# Altium integrated library TI Power Management DC-DC Controller (External Switch).IntLib: 349 symbols (part 26 of 28)
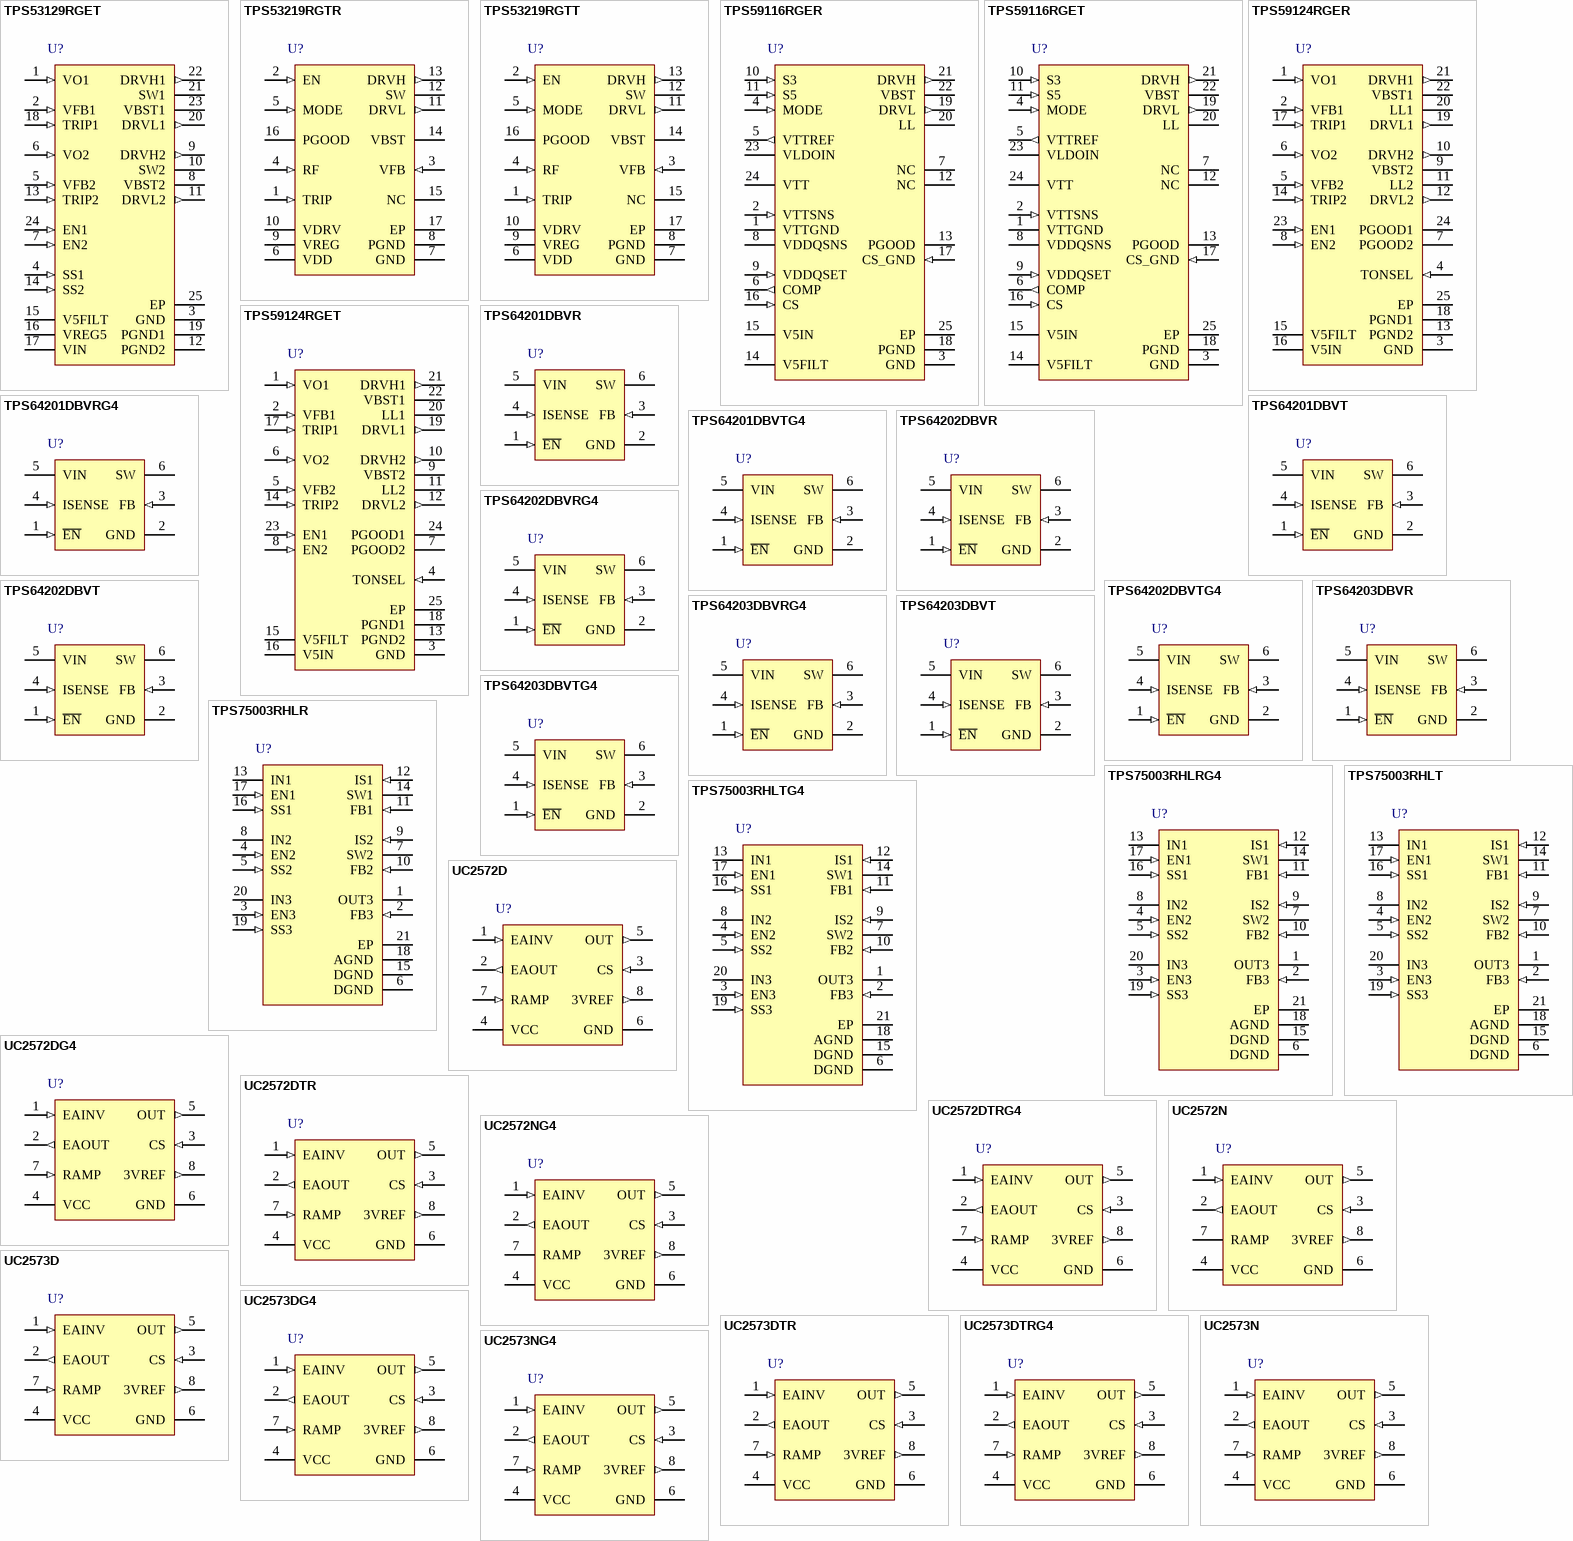
[diagram p39: symbols TPS53129RGET to UC2573NG4]

## TPS59124RGET
designator U?
Dual Synchronous Step-Down Controller for Low Voltage Power Rails in Embedded Computing, 3 to 28 V, -40 to 85 degC, 24-pin VQFN (RGE), Green (RoHS & no Sb/Br); Manufacturer: Texas Instruments; PartNumber: TPS59124RGET; Regulated Outputs(#): 2; SubFamily: Multiple-Output Switching Controller; Switching Frequency(Max)(kHz): 420; Topology: D-CAP Mode; Vin(Max)(V): 28; Vin(Min)(V): 3; Vout(Max)(V): 5.5; Vout(Min)(V): 0.76; DatasheetVersion: SLUSA58; PackageVersion: revG, Jul-2011; PackageReference: RGE24-2450X2450TP; PackageDescription: 24-Pin Plastic Quad Flatpack No-Lead, 4 x 4 mm Body, 0.5 mm Pitch; Supplier 1: Digi-Key; Supplier Part Number 1: 296-27718-2-ND; Supplier 2: Digi-Key; Supplier Part Number 2: 296-27718-1-ND; Supplier 3: Digi-Key; Supplier Part Number 3: 296-27718-6-ND; Supplier 4: Mouser; Supplier Part Number 4: 595-TPS59124RGET; Eco-Plan: Green (RoHS & no Sb/Br); Mounting Technology: Surface Mount; Code_JEDEC: MO-220; ComponentLink1Description: Datasheet; ComponentLink1URL: http://www.ti.com/general/docs/lit/getliterature.tsp?genericPartNumber=TPS59124&fileType=pdf; ComponentLink2Description: Package Specification; ComponentLink2URL: http://www.ti.com/litv/pdf/mpqf124f
footprint RGE24-2450X2450TP (QFN, 24-Leads, Body 4x4mm, Pitch 0.5mm, Thermal Pad 2.45x2.45mm, TI Recommended)
pins: 1 VO1 (in) "Output connections to SMPS. This terminal serve two functions: On-time adjustment and output discharge.", 2 VFB1 (in) "SMPS voltage feedback input. Connect with feedback resistor divider.", 3 GND (power) "Signal ground pin", 4 TONSEL (in) "On-time selection pin.", 5 VFB2 (in) "SMPS voltage feedback input. Connect with feedback resistor divider.", 6 VO2 (in) "Output connections to SMPS. This terminal serve two functions: On-time adjustment and output  discharge.", 7 PGOOD2 (oc) "Power Good window comparator open drain output for channel 2. Pull up with a resistor to 5 V, or appropriate signal voltage. Current capability is 5 mA. PGOOD goes high 0.5 ms after VFB comes within specified limits. Power (See Datasheet)", 8 EN2 (in) "Channel 2 enable pin. Connect to 5 V or 3.3 V to turn on SMPS", 9 VBST2 (power) "Supply input for synchronous high-side MOSFET driver (Boost Terminal). Connect capacitor from this pin to respective LL terminals. An internal PN diode is connected between V5IN to each of these pins. User can add external (See Datasheet)", 10 DRVH2 (out) "Synchronous high-side MOSFET driver output. LL node referenced floating drivers. The gate drive voltage is defined by the voltage across VBST to LL node flying capacitor.", 11 LL2 (power) "Switch node connections for high-side drivers return. Also serve as input to current comparators and input voltage monitor for on-time control circuitry.", 12 DRVL2 (out) "Synchronous low-side MOSFET driver output. PGND referenced drivers. The gate drive voltage is defined by V5IN voltage.", 13 PGND2 (power) "Ground returns for DRVL1 and DRVL2. Also serve as input of current comparators. Connect PGND1, PGND2, and GND strongly together near the IC. Output discharge current flows through this pin, also.", 14 TRIP2 (in) "Over-current trip point set input. Connect resistor from this pin to GND to set threshold for synchronous low-side RDS(on) sense. Voltage across this pin and GND is compared to voltage across PGND and LL at over-current (See Datasheet)", 15 V5FILT (power) "5-V power supply input for the entire control circuit except the MOSFET drivers. Connect RC low-pass filter from V5IN to V5FILT.", 16 V5IN (power) "5-V power supply input for FET gate drivers. Internally connected to VBSTx by PN diodes.", 17 TRIP1 (in) "Over-current trip point set input. Connect resistor from this pin to GND to set threshold for synchronous low-side RDS(on) sense. Voltage across this pin and GND is compared to voltage across PGND and LL at over-current (See Datasheet)", 18 PGND1 (power) "Ground returns for DRVL1 and DRVL2. Also serve as input of current comparators. Connect PGND1, PGND2, and GND strongly together near the IC. Output discharge current flows through this pin, also.", 19 DRVL1 (out) "Synchronous low-side MOSFET driver output. PGND referenced drivers. The gate drive voltage is defined by V5IN voltage.", 20 LL1 (power) "Switch node connections for high-side drivers return. Also serve as input to current comparators and input voltage monitor for on-time control circuitry.", 21 DRVH1 (out) "Synchronous high-side MOSFET driver output. LL node referenced floating drivers. The gate drive voltage is defined by the voltage across VBST to LL node flying capacitor.", 22 VBST1 (power) "Supply input for synchronous high-side MOSFET driver (Boost Terminal). Connect capacitor from this pin to respective LL terminals. An internal PN diode is connected between V5IN to each of these pins. User can add external (See Datasheet)", 23 EN1 (in) "Channel 1 enable pin. Connect to 5 V or 3.3 V to turn on SMPS", 24 PGOOD1 (oc) "Power Good window comparator open drain output for channel 1. Pull up with a resistor to 5 V, or appropriate signal voltage. Current capability is 5 mA. PGOOD goes high 0.5 ms after VFB comes within specified limits. Power (See Datasheet)", 25 EP "Exposed Thermal Pad."

## TPS64201DBVR
designator U?
Adjustable, up to 3 A, 95 % Efficient Step-Down Controller, 100 % Duty Cycle, 1.8 to 6.5 V, -40 to 85 degC, 6-pin SOT-23 (DBV), Green (RoHS & no Sb/Br); Manufacturer: Texas Instruments; PartNumber: TPS64201DBVR; Duty Cycle(Max)(%): 100; Iout(Max)(A): 3; Regulated Outputs(#): 1; Topology: Buck; Vin(Max)(V): 6.5; Vin(Min)(V): 1.8; Vout(Min)(V): 1.2; DatasheetVersion: SLVS485; PackageVersion: revK, Mar-2006; PackageReference: DBV6; PackageDescription: 6-Pin Plastic Small-Outline Package, 2.9 x 1.6 mm Body, 0.95 mm Pitch, 2.8 mm Lead Span; Supplier 1: Digi-Key; Supplier Part Number 1: TPS64201DBVR-ND; Supplier 2: Newark; Supplier Part Number 2: 82H5884; Supplier 3: Mouser; Supplier Part Number 3: 595-TPS64201DBVR; Eco-Plan: Green (RoHS & no Sb/Br); SubFamily: Step-Down Controller; Vout(Max)(V): 6.5; Mounting Technology: Surface Mount; Code_JEDEC: MO-178-AB*; ComponentLink1Description: Datasheet; ComponentLink1URL: http://www.ti.com/general/docs/lit/getliterature.tsp?genericPartNumber=TPS64201&fileType=pdf; ComponentLink2Description: Package Specification; ComponentLink2URL: http://www.ti.com/litv/pdf/mpds026h
footprint DBV6_N (SOT23, 6-Leads, Body 2.9x1.6mm, Pitch 0.95mm, Lead Span 2.8mm, IPC Medium Density)
footprint DBV6_L (SOT23, 6-Leads, Body 2.9x1.6mm, Pitch 0.95mm, Lead Span 2.8mm, IPC High Density)
footprint DBV6_M (SOT23, 6-Leads, Body 2.9x1.6mm, Pitch 0.95mm, Lead Span 2.8mm, IPC Low Density)
pins: 1 ~{EN} (in) "Enable. A logic low enables the converter, logic high forces the device into shutdown mode reducing the supply current to less than 1 uA.", 2 GND (power) "Ground", 3 FB (in) "Feedback pin. Connect an external voltage divider to this pin to set the output voltage", 4 ISENSE (in) "Current sense input. Connect the current sense resistor between VIN and ISENSE. (optional)", 5 VIN (power) "Supply voltage input", 6 SW (power) "This pin connects to the gate of an external P-channel MOSFET."

## TPS64201DBVRG4
designator U?
Adjustable, up to 3 A, 95 % Efficient Step-Down Controller, 100 % Duty Cycle, 1.8 to 6.5 V, -40 to 85 degC, 6-pin SOT-23 (DBV), Green (RoHS & no Sb/Br); Manufacturer: Texas Instruments; PartNumber: TPS64201DBVRG4; Duty Cycle(Max)(%): 100; Iout(Max)(A): 3; Regulated Outputs(#): 1; Topology: Buck; Vin(Max)(V): 6.5; Vin(Min)(V): 1.8; Vout(Min)(V): 1.2; DatasheetVersion: SLVS485; PackageVersion: revK, Mar-2006; PackageReference: DBV6; PackageDescription: 6-Pin Plastic Small-Outline Package, 2.9 x 1.6 mm Body, 0.95 mm Pitch, 2.8 mm Lead Span; Supplier 1: Digi-Key; Supplier Part Number 1: TPS64201DBVRG4-ND; Supplier 2: Newark; Supplier Part Number 2: 24K6047; Supplier 3: Mouser; Supplier Part Number 3: 595-TPS64201DBVRG4; Eco-Plan: Green (RoHS & no Sb/Br); SubFamily: Step-Down Controller; Vout(Max)(V): 6.5; Mounting Technology: Surface Mount; Code_JEDEC: MO-178-AB*; ComponentLink1Description: Datasheet; ComponentLink1URL: http://www.ti.com/general/docs/lit/getliterature.tsp?genericPartNumber=TPS64201&fileType=pdf; ComponentLink2Description: Package Specification; ComponentLink2URL: http://www.ti.com/litv/pdf/mpds026h
footprint DBV6_N (SOT23, 6-Leads, Body 2.9x1.6mm, Pitch 0.95mm, Lead Span 2.8mm, IPC Medium Density)
footprint DBV6_L (SOT23, 6-Leads, Body 2.9x1.6mm, Pitch 0.95mm, Lead Span 2.8mm, IPC High Density)
footprint DBV6_M (SOT23, 6-Leads, Body 2.9x1.6mm, Pitch 0.95mm, Lead Span 2.8mm, IPC Low Density)
pins: 1 ~{EN} (in) "Enable. A logic low enables the converter, logic high forces the device into shutdown mode reducing the supply current to less than 1 uA.", 2 GND (power) "Ground", 3 FB (in) "Feedback pin. Connect an external voltage divider to this pin to set the output voltage", 4 ISENSE (in) "Current sense input. Connect the current sense resistor between VIN and ISENSE. (optional)", 5 VIN (power) "Supply voltage input", 6 SW (power) "This pin connects to the gate of an external P-channel MOSFET."

## TPS64201DBVT
designator U?
Adjustable, up to 3 A, 95 % Efficient Step-Down Controller, 100 % Duty Cycle, 1.8 to 6.5 V, -40 to 85 degC, 6-pin SOT-23 (DBV), Green (RoHS & no Sb/Br); Manufacturer: Texas Instruments; PartNumber: TPS64201DBVT; Duty Cycle(Max)(%): 100; Iout(Max)(A): 3; Regulated Outputs(#): 1; Topology: Buck; Vin(Max)(V): 6.5; Vin(Min)(V): 1.8; Vout(Min)(V): 1.2; DatasheetVersion: SLVS485; PackageVersion: revK, Mar-2006; PackageReference: DBV6; PackageDescription: 6-Pin Plastic Small-Outline Package, 2.9 x 1.6 mm Body, 0.95 mm Pitch, 2.8 mm Lead Span; Supplier 1: Digi-Key; Supplier Part Number 1: 296-15705-2-ND; Supplier 2: Digi-Key; Supplier Part Number 2: 296-15705-1-ND; Supplier 3: Digi-Key; Supplier Part Number 3: 296-15705-6-ND; Supplier 4: Farnell; Supplier Part Number 4: 8458073; Supplier 5: Newark; Supplier Part Number 5: 82H5885; Supplier 6: Mouser; Supplier Part Number 6: 595-TPS64201DBVT; Eco-Plan: Green (RoHS & no Sb/Br); SubFamily: Step-Down Controller; Vout(Max)(V): 6.5; Mounting Technology: Surface Mount; Code_JEDEC: MO-178-AB*; ComponentLink1Description: Datasheet; ComponentLink1URL: http://www.ti.com/general/docs/lit/getliterature.tsp?genericPartNumber=TPS64201&fileType=pdf; ComponentLink2Description: Package Specification; ComponentLink2URL: http://www.ti.com/litv/pdf/mpds026h
footprint DBV6_N (SOT23, 6-Leads, Body 2.9x1.6mm, Pitch 0.95mm, Lead Span 2.8mm, IPC Medium Density)
footprint DBV6_L (SOT23, 6-Leads, Body 2.9x1.6mm, Pitch 0.95mm, Lead Span 2.8mm, IPC High Density)
footprint DBV6_M (SOT23, 6-Leads, Body 2.9x1.6mm, Pitch 0.95mm, Lead Span 2.8mm, IPC Low Density)
pins: 1 ~{EN} (in) "Enable. A logic low enables the converter, logic high forces the device into shutdown mode reducing the supply current to less than 1 uA.", 2 GND (power) "Ground", 3 FB (in) "Feedback pin. Connect an external voltage divider to this pin to set the output voltage", 4 ISENSE (in) "Current sense input. Connect the current sense resistor between VIN and ISENSE. (optional)", 5 VIN (power) "Supply voltage input", 6 SW (power) "This pin connects to the gate of an external P-channel MOSFET."

## TPS64201DBVTG4
designator U?
Adjustable, up to 3 A, 95 % Efficient Step-Down Controller, 100 % Duty Cycle, 1.8 to 6.5 V, -40 to 85 degC, 6-pin SOT-23 (DBV), Green (RoHS & no Sb/Br); Manufacturer: Texas Instruments; PartNumber: TPS64201DBVTG4; Duty Cycle(Max)(%): 100; Iout(Max)(A): 3; Regulated Outputs(#): 1; Topology: Buck; Vin(Max)(V): 6.5; Vin(Min)(V): 1.8; Vout(Min)(V): 1.2; DatasheetVersion: SLVS485; PackageVersion: revK, Mar-2006; PackageReference: DBV6; PackageDescription: 6-Pin Plastic Small-Outline Package, 2.9 x 1.6 mm Body, 0.95 mm Pitch, 2.8 mm Lead Span; Supplier 1: Digi-Key; Supplier Part Number 1: TPS64201DBVTG4-ND; Supplier 2: Newark; Supplier Part Number 2: 33K7642; Supplier 3: Mouser; Supplier Part Number 3: 595-TPS64201DBVTG4; Eco-Plan: Green (RoHS & no Sb/Br); SubFamily: Step-Down Controller; Vout(Max)(V): 6.5; Mounting Technology: Surface Mount; Code_JEDEC: MO-178-AB*; ComponentLink1Description: Datasheet; ComponentLink1URL: http://www.ti.com/general/docs/lit/getliterature.tsp?genericPartNumber=TPS64201&fileType=pdf; ComponentLink2Description: Package Specification; ComponentLink2URL: http://www.ti.com/litv/pdf/mpds026h
footprint DBV6_N (SOT23, 6-Leads, Body 2.9x1.6mm, Pitch 0.95mm, Lead Span 2.8mm, IPC Medium Density)
footprint DBV6_L (SOT23, 6-Leads, Body 2.9x1.6mm, Pitch 0.95mm, Lead Span 2.8mm, IPC High Density)
footprint DBV6_M (SOT23, 6-Leads, Body 2.9x1.6mm, Pitch 0.95mm, Lead Span 2.8mm, IPC Low Density)
pins: 1 ~{EN} (in) "Enable. A logic low enables the converter, logic high forces the device into shutdown mode reducing the supply current to less than 1 uA.", 2 GND (power) "Ground", 3 FB (in) "Feedback pin. Connect an external voltage divider to this pin to set the output voltage", 4 ISENSE (in) "Current sense input. Connect the current sense resistor between VIN and ISENSE. (optional)", 5 VIN (power) "Supply voltage input", 6 SW (power) "This pin connects to the gate of an external P-channel MOSFET."

## TPS64202DBVR
designator U?
Adjustable, up to 3 A, 95 % Efficient Step-Down Controller, 100 % Duty Cycle, 1.8 to 6.5 V, -40 to 85 degC, 6-pin SOT-23 (DBV), Green (RoHS & no Sb/Br); Manufacturer: Texas Instruments; PartNumber: TPS64202DBVR; Duty Cycle(Max)(%): 100; Iout(Max)(A): 3; Regulated Outputs(#): 1; Topology: Buck; Vin(Max)(V): 6.5; Vin(Min)(V): 1.8; Vout(Min)(V): 1.2; DatasheetVersion: SLVS485; PackageVersion: revK, Mar-2006; PackageReference: DBV6; PackageDescription: 6-Pin Plastic Small-Outline Package, 2.9 x 1.6 mm Body, 0.95 mm Pitch, 2.8 mm Lead Span; Supplier 1: Digi-Key; Supplier Part Number 1: 296-27035-2-ND; Supplier 2: Digi-Key; Supplier Part Number 2: 296-27035-1-ND; Supplier 3: Digi-Key; Supplier Part Number 3: 296-27035-6-ND; Supplier 4: Newark; Supplier Part Number 4: 82H5886; Supplier 5: Mouser; Supplier Part Number 5: 595-TPS64202DBVR; Eco-Plan: Green (RoHS & no Sb/Br); SubFamily: Step-Down Controller; Vout(Max)(V): 6.5; Mounting Technology: Surface Mount; Code_JEDEC: MO-178-AB*; ComponentLink1Description: Datasheet; ComponentLink1URL: http://www.ti.com/general/docs/lit/getliterature.tsp?genericPartNumber=TPS64202&fileType=pdf; ComponentLink2Description: Package Specification; ComponentLink2URL: http://www.ti.com/litv/pdf/mpds026h
footprint DBV6_N (SOT23, 6-Leads, Body 2.9x1.6mm, Pitch 0.95mm, Lead Span 2.8mm, IPC Medium Density)
footprint DBV6_L (SOT23, 6-Leads, Body 2.9x1.6mm, Pitch 0.95mm, Lead Span 2.8mm, IPC High Density)
footprint DBV6_M (SOT23, 6-Leads, Body 2.9x1.6mm, Pitch 0.95mm, Lead Span 2.8mm, IPC Low Density)
pins: 1 ~{EN} (in) "Enable. A logic low enables the converter, logic high forces the device into shutdown mode reducing the supply current to less than 1 uA.", 2 GND (power) "Ground", 3 FB (in) "Feedback pin. Connect an external voltage divider to this pin to set the output voltage", 4 ISENSE (in) "Current sense input. Connect the current sense resistor between VIN and ISENSE. (optional)", 5 VIN (power) "Supply voltage input", 6 SW (power) "This pin connects to the gate of an external P-channel MOSFET"

## TPS64202DBVRG4
designator U?
Adjustable, up to 3 A, 95 % Efficient Step-Down Controller, 100 % Duty Cycle, 1.8 to 6.5 V, -40 to 85 degC, 6-pin SOT-23 (DBV), Green (RoHS & no Sb/Br); Manufacturer: Texas Instruments; PartNumber: TPS64202DBVRG4; Duty Cycle(Max)(%): 100; Iout(Max)(A): 3; Regulated Outputs(#): 1; Topology: Buck; Vin(Max)(V): 6.5; Vin(Min)(V): 1.8; Vout(Min)(V): 1.2; DatasheetVersion: SLVS485; PackageVersion: revK, Mar-2006; PackageReference: DBV6; PackageDescription: 6-Pin Plastic Small-Outline Package, 2.9 x 1.6 mm Body, 0.95 mm Pitch, 2.8 mm Lead Span; Supplier 1: Digi-Key; Supplier Part Number 1: TPS64202DBVRG4-ND; Supplier 2: Newark; Supplier Part Number 2: 71J8215; Supplier 3: Mouser; Supplier Part Number 3: 595-TPS64202DBVRG4; Eco-Plan: Green (RoHS & no Sb/Br); SubFamily: Step-Down Controller; Vout(Max)(V): 6.5; Mounting Technology: Surface Mount; Code_JEDEC: MO-178-AB*; ComponentLink1Description: Datasheet; ComponentLink1URL: http://www.ti.com/general/docs/lit/getliterature.tsp?genericPartNumber=TPS64202&fileType=pdf; ComponentLink2Description: Package Specification; ComponentLink2URL: http://www.ti.com/litv/pdf/mpds026h
footprint DBV6_N (SOT23, 6-Leads, Body 2.9x1.6mm, Pitch 0.95mm, Lead Span 2.8mm, IPC Medium Density)
footprint DBV6_L (SOT23, 6-Leads, Body 2.9x1.6mm, Pitch 0.95mm, Lead Span 2.8mm, IPC High Density)
footprint DBV6_M (SOT23, 6-Leads, Body 2.9x1.6mm, Pitch 0.95mm, Lead Span 2.8mm, IPC Low Density)
pins: 1 ~{EN} (in) "Enable. A logic low enables the converter, logic high forces the device into shutdown mode reducing the supply current to less than 1 uA.", 2 GND (power) "Ground", 3 FB (in) "Feedback pin. Connect an external voltage divider to this pin to set the output voltage", 4 ISENSE (in) "Current sense input. Connect the current sense resistor between VIN and ISENSE. (optional)", 5 VIN (power) "Supply voltage input", 6 SW (power) "This pin connects to the gate of an external P-channel MOSFET"

## TPS64202DBVT
designator U?
Adjustable, up to 3 A, 95 % Efficient Step-Down Controller, 100 % Duty Cycle, 1.8 to 6.5 V, -40 to 85 degC, 6-pin SOT-23 (DBV), Green (RoHS & no Sb/Br); Manufacturer: Texas Instruments; PartNumber: TPS64202DBVT; Duty Cycle(Max)(%): 100; Iout(Max)(A): 3; Regulated Outputs(#): 1; Topology: Buck; Vin(Max)(V): 6.5; Vin(Min)(V): 1.8; Vout(Min)(V): 1.2; DatasheetVersion: SLVS485; PackageVersion: revK, Mar-2006; PackageReference: DBV6; PackageDescription: 6-Pin Plastic Small-Outline Package, 2.9 x 1.6 mm Body, 0.95 mm Pitch, 2.8 mm Lead Span; Supplier 1: Digi-Key; Supplier Part Number 1: 296-15706-2-ND; Supplier 2: Digi-Key; Supplier Part Number 2: 296-15706-1-ND; Supplier 3: Digi-Key; Supplier Part Number 3: 296-15706-6-ND; Supplier 4: Farnell; Supplier Part Number 4: 8458081; Supplier 5: Newark; Supplier Part Number 5: 82H5887; Supplier 6: Mouser; Supplier Part Number 6: 595-TPS64202DBVT; Eco-Plan: Green (RoHS & no Sb/Br); SubFamily: Step-Down Controller; Vout(Max)(V): 6.5; Mounting Technology: Surface Mount; Code_JEDEC: MO-178-AB*; ComponentLink1Description: Datasheet; ComponentLink1URL: http://www.ti.com/general/docs/lit/getliterature.tsp?genericPartNumber=TPS64202&fileType=pdf; ComponentLink2Description: Package Specification; ComponentLink2URL: http://www.ti.com/litv/pdf/mpds026h
footprint DBV6_N (SOT23, 6-Leads, Body 2.9x1.6mm, Pitch 0.95mm, Lead Span 2.8mm, IPC Medium Density)
footprint DBV6_L (SOT23, 6-Leads, Body 2.9x1.6mm, Pitch 0.95mm, Lead Span 2.8mm, IPC High Density)
footprint DBV6_M (SOT23, 6-Leads, Body 2.9x1.6mm, Pitch 0.95mm, Lead Span 2.8mm, IPC Low Density)
pins: 1 ~{EN} (in) "Enable. A logic low enables the converter, logic high forces the device into shutdown mode reducing the supply current to less than 1 uA.", 2 GND (power) "Ground", 3 FB (in) "Feedback pin. Connect an external voltage divider to this pin to set the output voltage", 4 ISENSE (in) "Current sense input. Connect the current sense resistor between VIN and ISENSE. (optional)", 5 VIN (power) "Supply voltage input", 6 SW (power) "This pin connects to the gate of an external P-channel MOSFET"

## TPS64202DBVTG4
designator U?
Adjustable, up to 3 A, 95 % Efficient Step-Down Controller, 100 % Duty Cycle, 1.8 to 6.5 V, -40 to 85 degC, 6-pin SOT-23 (DBV), Green (RoHS & no Sb/Br); Manufacturer: Texas Instruments; PartNumber: TPS64202DBVTG4; Duty Cycle(Max)(%): 100; Iout(Max)(A): 3; Regulated Outputs(#): 1; Topology: Buck; Vin(Max)(V): 6.5; Vin(Min)(V): 1.8; Vout(Min)(V): 1.2; DatasheetVersion: SLVS485; PackageVersion: revK, Mar-2006; PackageReference: DBV6; PackageDescription: 6-Pin Plastic Small-Outline Package, 2.9 x 1.6 mm Body, 0.95 mm Pitch, 2.8 mm Lead Span; Supplier 1: Digi-Key; Supplier Part Number 1: TPS64202DBVTG4-ND; Supplier 2: Newark; Supplier Part Number 2: 24K6048; Supplier 3: Mouser; Supplier Part Number 3: 595-TPS64202DBVTG4; Eco-Plan: Green (RoHS & no Sb/Br); SubFamily: Step-Down Controller; Vout(Max)(V): 6.5; Mounting Technology: Surface Mount; Code_JEDEC: MO-178-AB*; ComponentLink1Description: Datasheet; ComponentLink1URL: http://www.ti.com/general/docs/lit/getliterature.tsp?genericPartNumber=TPS64202&fileType=pdf; ComponentLink2Description: Package Specification; ComponentLink2URL: http://www.ti.com/litv/pdf/mpds026h
footprint DBV6_N (SOT23, 6-Leads, Body 2.9x1.6mm, Pitch 0.95mm, Lead Span 2.8mm, IPC Medium Density)
footprint DBV6_L (SOT23, 6-Leads, Body 2.9x1.6mm, Pitch 0.95mm, Lead Span 2.8mm, IPC High Density)
footprint DBV6_M (SOT23, 6-Leads, Body 2.9x1.6mm, Pitch 0.95mm, Lead Span 2.8mm, IPC Low Density)
pins: 1 ~{EN} (in) "Enable. A logic low enables the converter, logic high forces the device into shutdown mode reducing the supply current to less than 1 uA.", 2 GND (power) "Ground", 3 FB (in) "Feedback pin. Connect an external voltage divider to this pin to set the output voltage", 4 ISENSE (in) "Current sense input. Connect the current sense resistor between VIN and ISENSE. (optional)", 5 VIN (power) "Supply voltage input", 6 SW (power) "This pin connects to the gate of an external P-channel MOSFET"

## TPS64203DBVR
designator U?
Adjustable, up to 3 A, 95 % Efficient Step-Down Controller, 100 % Duty Cycle, 1.8 to 6.5 V, -40 to 85 degC, 6-pin SOT-23 (DBV), Green (RoHS & no Sb/Br); Manufacturer: Texas Instruments; PartNumber: TPS64203DBVR; Duty Cycle(Max)(%): 100; Iout(Max)(A): 3; Regulated Outputs(#): 1; Topology: Buck; Vin(Max)(V): 6.5; Vin(Min)(V): 1.8; Vout(Min)(V): 1.2; DatasheetVersion: SLVS485; PackageVersion: revK, Mar-2006; PackageReference: DBV6; PackageDescription: 6-Pin Plastic Small-Outline Package, 2.9 x 1.6 mm Body, 0.95 mm Pitch, 2.8 mm Lead Span; Supplier 1: Digi-Key; Supplier Part Number 1: 296-27036-2-ND; Supplier 2: Digi-Key; Supplier Part Number 2: 296-27036-1-ND; Supplier 3: Digi-Key; Supplier Part Number 3: 296-27036-6-ND; Supplier 4: Newark; Supplier Part Number 4: 82H5888; Supplier 5: Mouser; Supplier Part Number 5: 595-TPS64203DBVR; Eco-Plan: Green (RoHS & no Sb/Br); SubFamily: Step-Down Controller; Vout(Max)(V): 6.5; Mounting Technology: Surface Mount; Code_JEDEC: MO-178-AB*; ComponentLink1Description: Datasheet; ComponentLink1URL: http://www.ti.com/general/docs/lit/getliterature.tsp?genericPartNumber=TPS64203&fileType=pdf; ComponentLink2Description: Package Specification; ComponentLink2URL: http://www.ti.com/litv/pdf/mpds026h
footprint DBV6_N (SOT23, 6-Leads, Body 2.9x1.6mm, Pitch 0.95mm, Lead Span 2.8mm, IPC Medium Density)
footprint DBV6_L (SOT23, 6-Leads, Body 2.9x1.6mm, Pitch 0.95mm, Lead Span 2.8mm, IPC High Density)
footprint DBV6_M (SOT23, 6-Leads, Body 2.9x1.6mm, Pitch 0.95mm, Lead Span 2.8mm, IPC Low Density)
pins: 1 ~{EN} (in) "Enable. A logic low enables the converter, logic high forces the device into shutdown mode reducing the supply current to less than 1 uA.", 2 GND (power) "Ground", 3 FB (in) "Feedback pin. Connect an external voltage divider to this pin to set the output voltage.", 4 ISENSE (in) "Current sense input. Connect the current sense resistor between VIN and ISENSE. (optional)", 5 VIN (power) "Supply voltage input", 6 SW (power) "This pin connects to the gate of an external P-channel MOSFET."

## TPS64203DBVRG4
designator U?
Adjustable, up to 3 A, 95 % Efficient Step-Down Controller, 100 % Duty Cycle, 1.8 to 6.5 V, -40 to 85 degC, 6-pin SOT-23 (DBV), Green (RoHS & no Sb/Br); Manufacturer: Texas Instruments; PartNumber: TPS64203DBVRG4; Duty Cycle(Max)(%): 100; Iout(Max)(A): 3; Regulated Outputs(#): 1; Topology: Buck; Vin(Max)(V): 6.5; Vin(Min)(V): 1.8; Vout(Min)(V): 1.2; DatasheetVersion: SLVS485; PackageVersion: revK, Mar-2006; PackageReference: DBV6; PackageDescription: 6-Pin Plastic Small-Outline Package, 2.9 x 1.6 mm Body, 0.95 mm Pitch, 2.8 mm Lead Span; Supplier 1: Digi-Key; Supplier Part Number 1: TPS64203DBVRG4-ND; Supplier 2: Newark; Supplier Part Number 2: 08K4964; Supplier 3: Mouser; Supplier Part Number 3: 595-TPS64203DBVRG4; Eco-Plan: Green (RoHS & no Sb/Br); SubFamily: Step-Down Controller; Vout(Max)(V): 6.5; Mounting Technology: Surface Mount; Code_JEDEC: MO-178-AB*; ComponentLink1Description: Datasheet; ComponentLink1URL: http://www.ti.com/general/docs/lit/getliterature.tsp?genericPartNumber=TPS64203&fileType=pdf; ComponentLink2Description: Package Specification; ComponentLink2URL: http://www.ti.com/litv/pdf/mpds026h
footprint DBV6_N (SOT23, 6-Leads, Body 2.9x1.6mm, Pitch 0.95mm, Lead Span 2.8mm, IPC Medium Density)
footprint DBV6_L (SOT23, 6-Leads, Body 2.9x1.6mm, Pitch 0.95mm, Lead Span 2.8mm, IPC High Density)
footprint DBV6_M (SOT23, 6-Leads, Body 2.9x1.6mm, Pitch 0.95mm, Lead Span 2.8mm, IPC Low Density)
pins: 1 ~{EN} (in) "Enable. A logic low enables the converter, logic high forces the device into shutdown mode reducing the supply current to less than 1 uA.", 2 GND (power) "Ground", 3 FB (in) "Feedback pin. Connect an external voltage divider to this pin to set the output voltage.", 4 ISENSE (in) "Current sense input. Connect the current sense resistor between VIN and ISENSE. (optional)", 5 VIN (power) "Supply voltage input", 6 SW (power) "This pin connects to the gate of an external P-channel MOSFET."

## TPS64203DBVT
designator U?
Adjustable, up to 3 A, 95 % Efficient Step-Down Controller, 100 % Duty Cycle, 1.8 to 6.5 V, -40 to 85 degC, 6-pin SOT-23 (DBV), Green (RoHS & no Sb/Br); Manufacturer: Texas Instruments; PartNumber: TPS64203DBVT; Duty Cycle(Max)(%): 100; Iout(Max)(A): 3; Regulated Outputs(#): 1; Topology: Buck; Vin(Max)(V): 6.5; Vin(Min)(V): 1.8; Vout(Min)(V): 1.2; DatasheetVersion: SLVS485; PackageVersion: revK, Mar-2006; PackageReference: DBV6; PackageDescription: 6-Pin Plastic Small-Outline Package, 2.9 x 1.6 mm Body, 0.95 mm Pitch, 2.8 mm Lead Span; Supplier 1: Digi-Key; Supplier Part Number 1: 296-15707-2-ND; Supplier 2: Digi-Key; Supplier Part Number 2: 296-15707-1-ND; Supplier 3: Digi-Key; Supplier Part Number 3: 296-15707-6-ND; Supplier 4: Farnell; Supplier Part Number 4: 8458090; Supplier 5: Newark; Supplier Part Number 5: 82H5889; Supplier 6: Mouser; Supplier Part Number 6: 595-TPS64203DBVT; Eco-Plan: Green (RoHS & no Sb/Br); SubFamily: Step-Down Controller; Vout(Max)(V): 6.5; Mounting Technology: Surface Mount; Code_JEDEC: MO-178-AB*; ComponentLink1Description: Datasheet; ComponentLink1URL: http://www.ti.com/general/docs/lit/getliterature.tsp?genericPartNumber=TPS64203&fileType=pdf; ComponentLink2Description: Package Specification; ComponentLink2URL: http://www.ti.com/litv/pdf/mpds026h
footprint DBV6_N (SOT23, 6-Leads, Body 2.9x1.6mm, Pitch 0.95mm, Lead Span 2.8mm, IPC Medium Density)
footprint DBV6_L (SOT23, 6-Leads, Body 2.9x1.6mm, Pitch 0.95mm, Lead Span 2.8mm, IPC High Density)
footprint DBV6_M (SOT23, 6-Leads, Body 2.9x1.6mm, Pitch 0.95mm, Lead Span 2.8mm, IPC Low Density)
pins: 1 ~{EN} (in) "Enable. A logic low enables the converter, logic high forces the device into shutdown mode reducing the supply current to less than 1 uA.", 2 GND (power) "Ground", 3 FB (in) "Feedback pin. Connect an external voltage divider to this pin to set the output voltage.", 4 ISENSE (in) "Current sense input. Connect the current sense resistor between VIN and ISENSE. (optional)", 5 VIN (power) "Supply voltage input", 6 SW (power) "This pin connects to the gate of an external P-channel MOSFET."

## TPS64203DBVTG4
designator U?
Adjustable, up to 3 A, 95 % Efficient Step-Down Controller, 100 % Duty Cycle, 1.8 to 6.5 V, -40 to 85 degC, 6-pin SOT-23 (DBV), Green (RoHS & no Sb/Br); Manufacturer: Texas Instruments; PartNumber: TPS64203DBVTG4; Duty Cycle(Max)(%): 100; Iout(Max)(A): 3; Regulated Outputs(#): 1; Topology: Buck; Vin(Max)(V): 6.5; Vin(Min)(V): 1.8; Vout(Min)(V): 1.2; DatasheetVersion: SLVS485; PackageVersion: revK, Mar-2006; PackageReference: DBV6; PackageDescription: 6-Pin Plastic Small-Outline Package, 2.9 x 1.6 mm Body, 0.95 mm Pitch, 2.8 mm Lead Span; Supplier 1: Digi-Key; Supplier Part Number 1: TPS64203DBVTG4-ND; Supplier 2: Newark; Supplier Part Number 2: 54K1748; Supplier 3: Mouser; Supplier Part Number 3: 595-TPS64203DBVTG4; Eco-Plan: Green (RoHS & no Sb/Br); SubFamily: Step-Down Controller; Vout(Max)(V): 6.5; Mounting Technology: Surface Mount; Code_JEDEC: MO-178-AB*; ComponentLink1Description: Datasheet; ComponentLink1URL: http://www.ti.com/general/docs/lit/getliterature.tsp?genericPartNumber=TPS64203&fileType=pdf; ComponentLink2Description: Package Specification; ComponentLink2URL: http://www.ti.com/litv/pdf/mpds026h
footprint DBV6_N (SOT23, 6-Leads, Body 2.9x1.6mm, Pitch 0.95mm, Lead Span 2.8mm, IPC Medium Density)
footprint DBV6_L (SOT23, 6-Leads, Body 2.9x1.6mm, Pitch 0.95mm, Lead Span 2.8mm, IPC High Density)
footprint DBV6_M (SOT23, 6-Leads, Body 2.9x1.6mm, Pitch 0.95mm, Lead Span 2.8mm, IPC Low Density)
pins: 1 ~{EN} (in) "Enable. A logic low enables the converter, logic high forces the device into shutdown mode reducing the supply current to less than 1 uA.", 2 GND (power) "Ground", 3 FB (in) "Feedback pin. Connect an external voltage divider to this pin to set the output voltage.", 4 ISENSE (in) "Current sense input. Connect the current sense resistor between VIN and ISENSE. (optional)", 5 VIN (power) "Supply voltage input", 6 SW (power) "This pin connects to the gate of an external P-channel MOSFET."

## TPS75003RHLR
designator U?
Integrated Triple Supply Power Management IC for Xilinx (R) Spartan (TM)-3 FPGAs, 2.2 to 6.5 V, -40 to 85 degC, 20-pin QFN (RHL), Green (RoHS & no Sb/Br); Manufacturer: Texas Instruments; PartNumber: TPS75003RHLR; Regulated Outputs(#): 3; SubFamily: DC/DC Controller (External Switch); Topology: Multi-Channel; Vin(Max)(V): 6.5; Vin(Min)(V): 2.2; DatasheetVersion: SBVS052I; PackageVersion: revJ, Dec-2011; PackageReference: RHL20-3050X2050TP; PackageDescription: 20-Leads Plastic Quad Flatpack No-Lead, 4.5 x 3.5 x 0.9 mm Body, 0.5 mm Pitch, Exposed Pad; Supplier 1: Digi-Key; Supplier Part Number 1: 296-17835-2-ND; Supplier 2: Digi-Key; Supplier Part Number 2: 296-17835-1-ND; Supplier 3: Digi-Key; Supplier Part Number 3: 296-17835-6-ND; Supplier 4: Newark; Supplier Part Number 4: 24K6137; Supplier 5: Mouser; Supplier Part Number 5: 595-TPS75003RHLR; Eco-Plan: Green (RoHS & no Sb/Br); Mounting Technology: Surface Mount; ComponentLink1Description: Datasheet; ComponentLink1URL: http://www.ti.com/general/docs/lit/getliterature.tsp?genericPartNumber=TPS75003&fileType=pdf; ComponentLink2Description: Package Specification; ComponentLink2URL: http://www.ti.com/litv/pdf/mpqf155i
footprint RHL20-3050X2050TP (QFN, 20-Leads, Body 4.5x3.5mm, Pitch 0.5mm, Thermal Pad 3.05x2.05mm, TI Recommended)
pins: 1 OUT3 (power) "Regulated LDO output. A small ceramic capacitor (>= 2.2uF) is needed from this pin to ground to ensure stability.", 2 FB3 (in) "Same as FB1 but for LDO.", 3 EN3 (in) "Same as EN1 but for LDO.", 4 EN2 (in) "Same as EN1 but for BUCK2 controller.", 5 SS2 (in) "Same as SS1 but for BUCK2 regulator.", 6 DGND (power) "Ground connection for BUCK1 and BUCK2 converters. Pins 6 and 15 should be connected to the back side exposed pad by a short metal trace as shown in the PCB Layout section of this data sheet.", 7 SW2 (power) "Same as SW1 but for BUCK2 controller.", 8 IN2 (power) "Input supply to BUCK2.", 9 IS2 (in) "Same as IS1 but compared to IN2 and used for BUCK2 controller.", 10 FB2 (in) "Same as FB1 but for BUCK2 controller.", 11 FB1 (in) "Feedback pin. Used to set the output voltage of BUCK1 regulator.", 12 IS1 (in) "Current sense input for BUCK1 regulator. The voltage difference between this pin and IN1 is compared to an internal reference to set current limit. For a robust output start-up ramp, careful layout and bypassing are required.(See Datasheet)", 13 IN1 (power) "Input supply to BUCK1.", 14 SW1 (power) "Gate drive pin for external BUCK1 P-channel MOSFET.", 15 DGND (power) "Ground connection for BUCK1 and BUCK2 converters. Pins 6 and 15 should be connected to the back side exposed pad by a short metal trace as shown in the PCB Layout section of this data sheet.", 16 SS1 (in) "Connecting a capacitor between this pin and ground increases start-up time of the BUCK1 regulator by slowing the ramp-up of current limit. This high-impedance pin is noise-sensitive; careful layout is important. See the (See Datasheet)", 17 EN1 (in) "Driving the enable pin (ENx) high turns on BUCK1 regulator. Driving this pin low puts it into shutdown mode, reducing operating current. The enable pin does not trigger on fast negative going transients.", 18 AGND (power) "Ground connection for LDO.", 19 SS3 (in) "Connecting a capacitor from this pin to ground slows the start-up time of the LDO reference, therby slowing output voltage ramp-up. See the Applications section for details.", 20 IN3 (power) "Input supply to LDO.", 21 EP (power) "Ground connection for BUCK1 and BUCK2 converters. Pins 6 and 15 should be connected to the back side exposed pad by a short metal trace as shown in the PCB Layout section of this data sheet."

## TPS75003RHLRG4
designator U?
Integrated Triple Supply Power Management IC for Xilinx (R) Spartan (TM)-3 FPGAs, 2.2 to 6.5 V, -40 to 85 degC, 20-pin QFN (RHL), Green (RoHS & no Sb/Br); Manufacturer: Texas Instruments; PartNumber: TPS75003RHLRG4; Regulated Outputs(#): 3; SubFamily: DC/DC Controller (External Switch); Topology: Multi-Channel; Vin(Max)(V): 6.5; Vin(Min)(V): 2.2; DatasheetVersion: SBVS052I; PackageVersion: revJ, Dec-2011; PackageReference: RHL20-3050X2050TP; PackageDescription: 20-Leads Plastic Quad Flatpack No-Lead, 4.5 x 3.5 x 0.9 mm Body, 0.5 mm Pitch, Exposed Pad; Supplier 1: Digi-Key; Supplier Part Number 1: TPS75003RHLRG4-ND; Supplier 2: Newark; Supplier Part Number 2: 33K7714; Supplier 3: Mouser; Supplier Part Number 3: 595-TPS75003RHLRG4; Eco-Plan: Green (RoHS & no Sb/Br); Mounting Technology: Surface Mount; ComponentLink1Description: Datasheet; ComponentLink1URL: http://www.ti.com/general/docs/lit/getliterature.tsp?genericPartNumber=TPS75003&fileType=pdf; ComponentLink2Description: Package Specification; ComponentLink2URL: http://www.ti.com/litv/pdf/mpqf155i
footprint RHL20-3050X2050TP (QFN, 20-Leads, Body 4.5x3.5mm, Pitch 0.5mm, Thermal Pad 3.05x2.05mm, TI Recommended)
pins: 1 OUT3 (power) "Regulated LDO output. A small ceramic capacitor (>= 2.2uF) is needed from this pin to ground to ensure stability.", 2 FB3 (in) "Same as FB1 but for LDO.", 3 EN3 (in) "Same as EN1 but for LDO.", 4 EN2 (in) "Same as EN1 but for BUCK2 controller.", 5 SS2 (in) "Same as SS1 but for BUCK2 regulator.", 6 DGND (power) "Ground connection for BUCK1 and BUCK2 converters. Pins 6 and 15 should be connected to the back side exposed pad by a short metal trace as shown in the PCB Layout section of this data sheet.", 7 SW2 (power) "Same as SW1 but for BUCK2 controller.", 8 IN2 (power) "Input supply to BUCK2.", 9 IS2 (in) "Same as IS1 but compared to IN2 and used for BUCK2 controller.", 10 FB2 (in) "Same as FB1 but for BUCK2 controller.", 11 FB1 (in) "Feedback pin. Used to set the output voltage of BUCK1 regulator.", 12 IS1 (in) "Current sense input for BUCK1 regulator. The voltage difference between this pin and IN1 is compared to an internal reference to set current limit. For a robust output start-up ramp, careful layout and bypassing are required.(See Datasheet)", 13 IN1 (power) "Input supply to BUCK1.", 14 SW1 (power) "Gate drive pin for external BUCK1 P-channel MOSFET.", 15 DGND (power) "Ground connection for BUCK1 and BUCK2 converters. Pins 6 and 15 should be connected to the back side exposed pad by a short metal trace as shown in the PCB Layout section of this data sheet.", 16 SS1 (in) "Connecting a capacitor between this pin and ground increases start-up time of the BUCK1 regulator by slowing the ramp-up of current limit. This high-impedance pin is noise-sensitive; careful layout is important. See the (See Datasheet)", 17 EN1 (in) "Driving the enable pin (ENx) high turns on BUCK1 regulator. Driving this pin low puts it into shutdown mode, reducing operating current. The enable pin does not trigger on fast negative going transients.", 18 AGND (power) "Ground connection for LDO.", 19 SS3 (in) "Connecting a capacitor from this pin to ground slows the start-up time of the LDO reference, therby slowing output voltage ramp-up. See the Applications section for details.", 20 IN3 (power) "Input supply to LDO.", 21 EP (power) "Ground connection for BUCK1 and BUCK2 converters. Pins 6 and 15 should be connected to the back side exposed pad by a short metal trace as shown in the PCB Layout section of this data sheet."

## TPS75003RHLT
designator U?
Integrated Triple Supply Power Management IC for Xilinx (R) Spartan (TM)-3 FPGAs, 2.2 to 6.5 V, -40 to 85 degC, 20-pin QFN (RHL), Green (RoHS & no Sb/Br); Manufacturer: Texas Instruments; PartNumber: TPS75003RHLT; Regulated Outputs(#): 3; SubFamily: DC/DC Controller (External Switch); Topology: Multi-Channel; Vin(Max)(V): 6.5; Vin(Min)(V): 2.2; DatasheetVersion: SBVS052I; PackageVersion: revJ, Dec-2011; PackageReference: RHL20-3050X2050TP; PackageDescription: 20-Leads Plastic Quad Flatpack No-Lead, 4.5 x 3.5 x 0.9 mm Body, 0.5 mm Pitch, Exposed Pad; Supplier 1: Digi-Key; Supplier Part Number 1: 296-19438-2-ND; Supplier 2: Digi-Key; Supplier Part Number 2: 296-19438-1-ND; Supplier 3: Digi-Key; Supplier Part Number 3: 296-19438-6-ND; Supplier 4: Farnell; Supplier Part Number 4: 9969187; Supplier 5: Newark; Supplier Part Number 5: 93K0913; Supplier 6: Newark; Supplier Part Number 6: 24K6138; Supplier 7: Mouser; Supplier Part Number 7: 595-TPS75003RHLT; Eco-Plan: Green (RoHS & no Sb/Br); Mounting Technology: Surface Mount; ComponentLink1Description: Datasheet; ComponentLink1URL: http://www.ti.com/general/docs/lit/getliterature.tsp?genericPartNumber=TPS75003&fileType=pdf; ComponentLink2Description: Package Specification; ComponentLink2URL: http://www.ti.com/litv/pdf/mpqf155i
footprint RHL20-3050X2050TP (QFN, 20-Leads, Body 4.5x3.5mm, Pitch 0.5mm, Thermal Pad 3.05x2.05mm, TI Recommended)
pins: 1 OUT3 (power) "Regulated LDO output. A small ceramic capacitor (>= 2.2uF) is needed from this pin to ground to ensure stability.", 2 FB3 (in) "Same as FB1 but for LDO.", 3 EN3 (in) "Same as EN1 but for LDO.", 4 EN2 (in) "Same as EN1 but for BUCK2 controller.", 5 SS2 (in) "Same as SS1 but for BUCK2 regulator.", 6 DGND (power) "Ground connection for BUCK1 and BUCK2 converters. Pins 6 and 15 should be connected to the back side exposed pad by a short metal trace as shown in the PCB Layout section of this data sheet.", 7 SW2 (power) "Same as SW1 but for BUCK2 controller.", 8 IN2 (power) "Input supply to BUCK2.", 9 IS2 (in) "Same as IS1 but compared to IN2 and used for BUCK2 controller.", 10 FB2 (in) "Same as FB1 but for BUCK2 controller.", 11 FB1 (in) "Feedback pin. Used to set the output voltage of BUCK1 regulator.", 12 IS1 (in) "Current sense input for BUCK1 regulator. The voltage difference between this pin and IN1 is compared to an internal reference to set current limit. For a robust output start-up ramp, careful layout and bypassing are required.(See Datasheet)", 13 IN1 (power) "Input supply to BUCK1.", 14 SW1 (power) "Gate drive pin for external BUCK1 P-channel MOSFET.", 15 DGND (power) "Ground connection for BUCK1 and BUCK2 converters. Pins 6 and 15 should be connected to the back side exposed pad by a short metal trace as shown in the PCB Layout section of this data sheet.", 16 SS1 (in) "Connecting a capacitor between this pin and ground increases start-up time of the BUCK1 regulator by slowing the ramp-up of current limit. This high-impedance pin is noise-sensitive; careful layout is important. See the (See Datasheet)", 17 EN1 (in) "Driving the enable pin (ENx) high turns on BUCK1 regulator. Driving this pin low puts it into shutdown mode, reducing operating current. The enable pin does not trigger on fast negative going transients.", 18 AGND (power) "Ground connection for LDO.", 19 SS3 (in) "Connecting a capacitor from this pin to ground slows the start-up time of the LDO reference, therby slowing output voltage ramp-up. See the Applications section for details.", 20 IN3 (power) "Input supply to LDO.", 21 EP (power) "Ground connection for BUCK1 and BUCK2 converters. Pins 6 and 15 should be connected to the back side exposed pad by a short metal trace as shown in the PCB Layout section of this data sheet."

## TPS75003RHLTG4
designator U?
Integrated Triple Supply Power Management IC for Xilinx (R) Spartan (TM)-3 FPGAs, 2.2 to 6.5 V, -40 to 85 degC, 20-pin QFN (RHL), Green (RoHS & no Sb/Br); Manufacturer: Texas Instruments; PartNumber: TPS75003RHLTG4; Regulated Outputs(#): 3; SubFamily: DC/DC Controller (External Switch); Topology: Multi-Channel; Vin(Max)(V): 6.5; Vin(Min)(V): 2.2; DatasheetVersion: SBVS052I; PackageVersion: revJ, Dec-2011; PackageReference: RHL20-3050X2050TP; PackageDescription: 20-Leads Plastic Quad Flatpack No-Lead, 4.5 x 3.5 x 0.9 mm Body, 0.5 mm Pitch, Exposed Pad; Supplier 1: Digi-Key; Supplier Part Number 1: TPS75003RHLTG4-ND; Supplier 2: Newark; Supplier Part Number 2: 33K7715; Supplier 3: Mouser; Supplier Part Number 3: 595-TPS75003RHLTG4; Eco-Plan: Green (RoHS & no Sb/Br); Mounting Technology: Surface Mount; ComponentLink1Description: Datasheet; ComponentLink1URL: http://www.ti.com/general/docs/lit/getliterature.tsp?genericPartNumber=TPS75003&fileType=pdf; ComponentLink2Description: Package Specification; ComponentLink2URL: http://www.ti.com/litv/pdf/mpqf155i
footprint RHL20-3050X2050TP (QFN, 20-Leads, Body 4.5x3.5mm, Pitch 0.5mm, Thermal Pad 3.05x2.05mm, TI Recommended)
pins: 1 OUT3 (power) "Regulated LDO output. A small ceramic capacitor (>= 2.2uF) is needed from this pin to ground to ensure stability.", 2 FB3 (in) "Same as FB1 but for LDO.", 3 EN3 (in) "Same as EN1 but for LDO.", 4 EN2 (in) "Same as EN1 but for BUCK2 controller.", 5 SS2 (in) "Same as SS1 but for BUCK2 regulator.", 6 DGND (power) "Ground connection for BUCK1 and BUCK2 converters. Pins 6 and 15 should be connected to the back side exposed pad by a short metal trace as shown in the PCB Layout section of this data sheet.", 7 SW2 (power) "Same as SW1 but for BUCK2 controller.", 8 IN2 (power) "Input supply to BUCK2.", 9 IS2 (in) "Same as IS1 but compared to IN2 and used for BUCK2 controller.", 10 FB2 (in) "Same as FB1 but for BUCK2 controller.", 11 FB1 (in) "Feedback pin. Used to set the output voltage of BUCK1 regulator.", 12 IS1 (in) "Current sense input for BUCK1 regulator. The voltage difference between this pin and IN1 is compared to an internal reference to set current limit. For a robust output start-up ramp, careful layout and bypassing are required.(See Datasheet)", 13 IN1 (power) "Input supply to BUCK1.", 14 SW1 (power) "Gate drive pin for external BUCK1 P-channel MOSFET.", 15 DGND (power) "Ground connection for BUCK1 and BUCK2 converters. Pins 6 and 15 should be connected to the back side exposed pad by a short metal trace as shown in the PCB Layout section of this data sheet.", 16 SS1 (in) "Connecting a capacitor between this pin and ground increases start-up time of the BUCK1 regulator by slowing the ramp-up of current limit. This high-impedance pin is noise-sensitive; careful layout is important. See the (See Datasheet)", 17 EN1 (in) "Driving the enable pin (ENx) high turns on BUCK1 regulator. Driving this pin low puts it into shutdown mode, reducing operating current. The enable pin does not trigger on fast negative going transients.", 18 AGND (power) "Ground connection for LDO.", 19 SS3 (in) "Connecting a capacitor from this pin to ground slows the start-up time of the LDO reference, therby slowing output voltage ramp-up. See the Applications section for details.", 20 IN3 (power) "Input supply to LDO.", 21 EP (power) "Ground connection for BUCK1 and BUCK2 converters. Pins 6 and 15 should be connected to the back side exposed pad by a short metal trace as shown in the PCB Layout section of this data sheet."

## UC2572D
designator U?
Negative Output Flyback Pulse Width Modulator, 100 % Duty Cycle, 4.2 to 35 V, -40 to 85 degC, 8-pin SOIC (D), Green (RoHS & no Sb/Br); Manufacturer: Texas Instruments; PartNumber: UC2572D; Duty Cycle(Max)(%): 100; Iout(Max)(A): 0.5; Regulated Outputs(#): 1; SubFamily: Buck-Boost, Inverting Switching Controller; Switching Frequency(Max)(kHz): 300; Vin(Max)(V): 35; Vin(Min)(V): 4.2; Vout(Max)(V): -1; Vout(Min)(V): -70; DatasheetVersion: SLUS275A; PackageVersion: revM, Jun-2011; PackageReference: D8; PackageDescription: 8-Pin Plastic Small Outline Integrated Circuit, 4.9 x 3.9 mm, Pitch 1.27 mm Pitch; Supplier 1: Digi-Key; Supplier Part Number 1: 296-2480-5-ND; Supplier 2: Newark; Supplier Part Number 2: 77C2812; Supplier 3: Mouser; Supplier Part Number 3: 595-UC2572D; Eco-Plan: Green (RoHS & no Sb/Br); Topology: Flyback; Mounting Technology: Surface Mount; Code_JEDEC: MS-012AA; ComponentLink1Description: Datasheet; ComponentLink1URL: http://www.ti.com/general/docs/lit/getliterature.tsp?genericPartNumber=UC2572&fileType=pdf; ComponentLink2Description: Package Specification; ComponentLink2URL: http://www.ti.com/litv/pdf/msoi002j
footprint D8_N (SOIC, 8-Leads, Body 4.9x3.9mm, Pitch 1.27mm, IPC Medium Density)
footprint D8_L (SOIC, 8-Leads, Body 4.9x3.9mm, Pitch 1.27mm, IPC High Density)
footprint D8_M (SOIC, 8-Leads, Body 4.9x3.9mm, Pitch 1.27mm, IPC Low Density)
pins: 1 EAINV (in) "Inverting input to error amplifier. Summing junction for 3VREF and VOUT sense. The non-inverting input of the error amplifier is internally connected to GND. This pin will source a maximum of 1mA.", 2 EAOUT (out) "Output of error amplifier. Use EAOUT and EAINV for loop compensation components.", 3 CS (in) "Current limit sense pin. Connect to a ground referenced current sense resistor in series with the flyback inductor. OUT will be held high (PMOS switch off) if CS exceeds 0.2V.", 4 VCC (power) "Input voltage supply to chip. Range is 4.75 to 30V. Bypass with a 1uF capacitor", 5 OUT (out) "Gate drive for external PMOS switch connected between VCC and the flyback inductor. OUT drives the gate of the PMOS switch between VCC and GND", 6 GND (power) "Circuit Ground.", 7 RAMP (in) "Oscillator and ramp for pulse width modulator.Frequency is set by a capacitor to GND by the equation F=1/15K·CRAMP Recommended operating frequency range is 10kHz to 200kHz.", 8 3VREF (out) "Precision 3V reference. Bypass with 100nF capacitor to GND."

## UC2572DG4
designator U?
Negative Output Flyback Pulse Width Modulator, 100 % Duty Cycle, 4.2 to 35 V, -40 to 85 degC, 8-pin SOIC (D), Green (RoHS & no Sb/Br); Manufacturer: Texas Instruments; PartNumber: UC2572DG4; Duty Cycle(Max)(%): 100; Iout(Max)(A): 0.5; Regulated Outputs(#): 1; SubFamily: Buck-Boost, Inverting Switching Controller; Switching Frequency(Max)(kHz): 300; Vin(Max)(V): 35; Vin(Min)(V): 4.2; Vout(Max)(V): -1; Vout(Min)(V): -70; DatasheetVersion: SLUS275A; PackageVersion: revM, Jun-2011; PackageReference: D8; PackageDescription: 8-Pin Plastic Small Outline Integrated Circuit, 4.9 x 3.9 mm, Pitch 1.27 mm Pitch; Supplier 1: Digi-Key; Supplier Part Number 1: UC2572DG4-ND; Supplier 2: Newark; Supplier Part Number 2: 70K5949; Supplier 3: Mouser; Supplier Part Number 3: 595-UC2572DG4; Eco-Plan: Green (RoHS & no Sb/Br); Topology: Flyback; Mounting Technology: Surface Mount; Code_JEDEC: MS-012AA; ComponentLink1Description: Datasheet; ComponentLink1URL: http://www.ti.com/general/docs/lit/getliterature.tsp?genericPartNumber=UC2572&fileType=pdf; ComponentLink2Description: Package Specification; ComponentLink2URL: http://www.ti.com/litv/pdf/msoi002j
footprint D8_N (SOIC, 8-Leads, Body 4.9x3.9mm, Pitch 1.27mm, IPC Medium Density)
footprint D8_L (SOIC, 8-Leads, Body 4.9x3.9mm, Pitch 1.27mm, IPC High Density)
footprint D8_M (SOIC, 8-Leads, Body 4.9x3.9mm, Pitch 1.27mm, IPC Low Density)
pins: 1 EAINV (in) "Inverting input to error amplifier. Summing junction for 3VREF and VOUT sense. The non-inverting input of the error amplifier is internally connected to GND. This pin will source a maximum of 1mA.", 2 EAOUT (out) "Output of error amplifier. Use EAOUT and EAINV for loop compensation components.", 3 CS (in) "Current limit sense pin. Connect to a ground referenced current sense resistor in series with the flyback inductor. OUT will be held high (PMOS switch off) if CS exceeds 0.2V.", 4 VCC (power) "Input voltage supply to chip. Range is 4.75 to 30V. Bypass with a 1uF capacitor", 5 OUT (out) "Gate drive for external PMOS switch connected between VCC and the flyback inductor. OUT drives the gate of the PMOS switch between VCC and GND", 6 GND (power) "Circuit Ground.", 7 RAMP (in) "Oscillator and ramp for pulse width modulator.Frequency is set by a capacitor to GND by the equation F=1/15K·CRAMP Recommended operating frequency range is 10kHz to 200kHz.", 8 3VREF (out) "Precision 3V reference. Bypass with 100nF capacitor to GND."